# Altium schematic symbol library Ferrite_bead.SchLib: 1 symbol
Pins are listed as number, name and electrical type; pins without a type are passive.

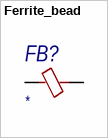
[diagram p0: symbol Ferrite_bead]

## Ferrite_bead
designator FB?
pins: 1, 2